# Altium integrated library Lattice EC FPGA.IntLib: 173 symbols (part 1 of 2)
Pins are listed as number, name and electrical type; pins without a type are passive.

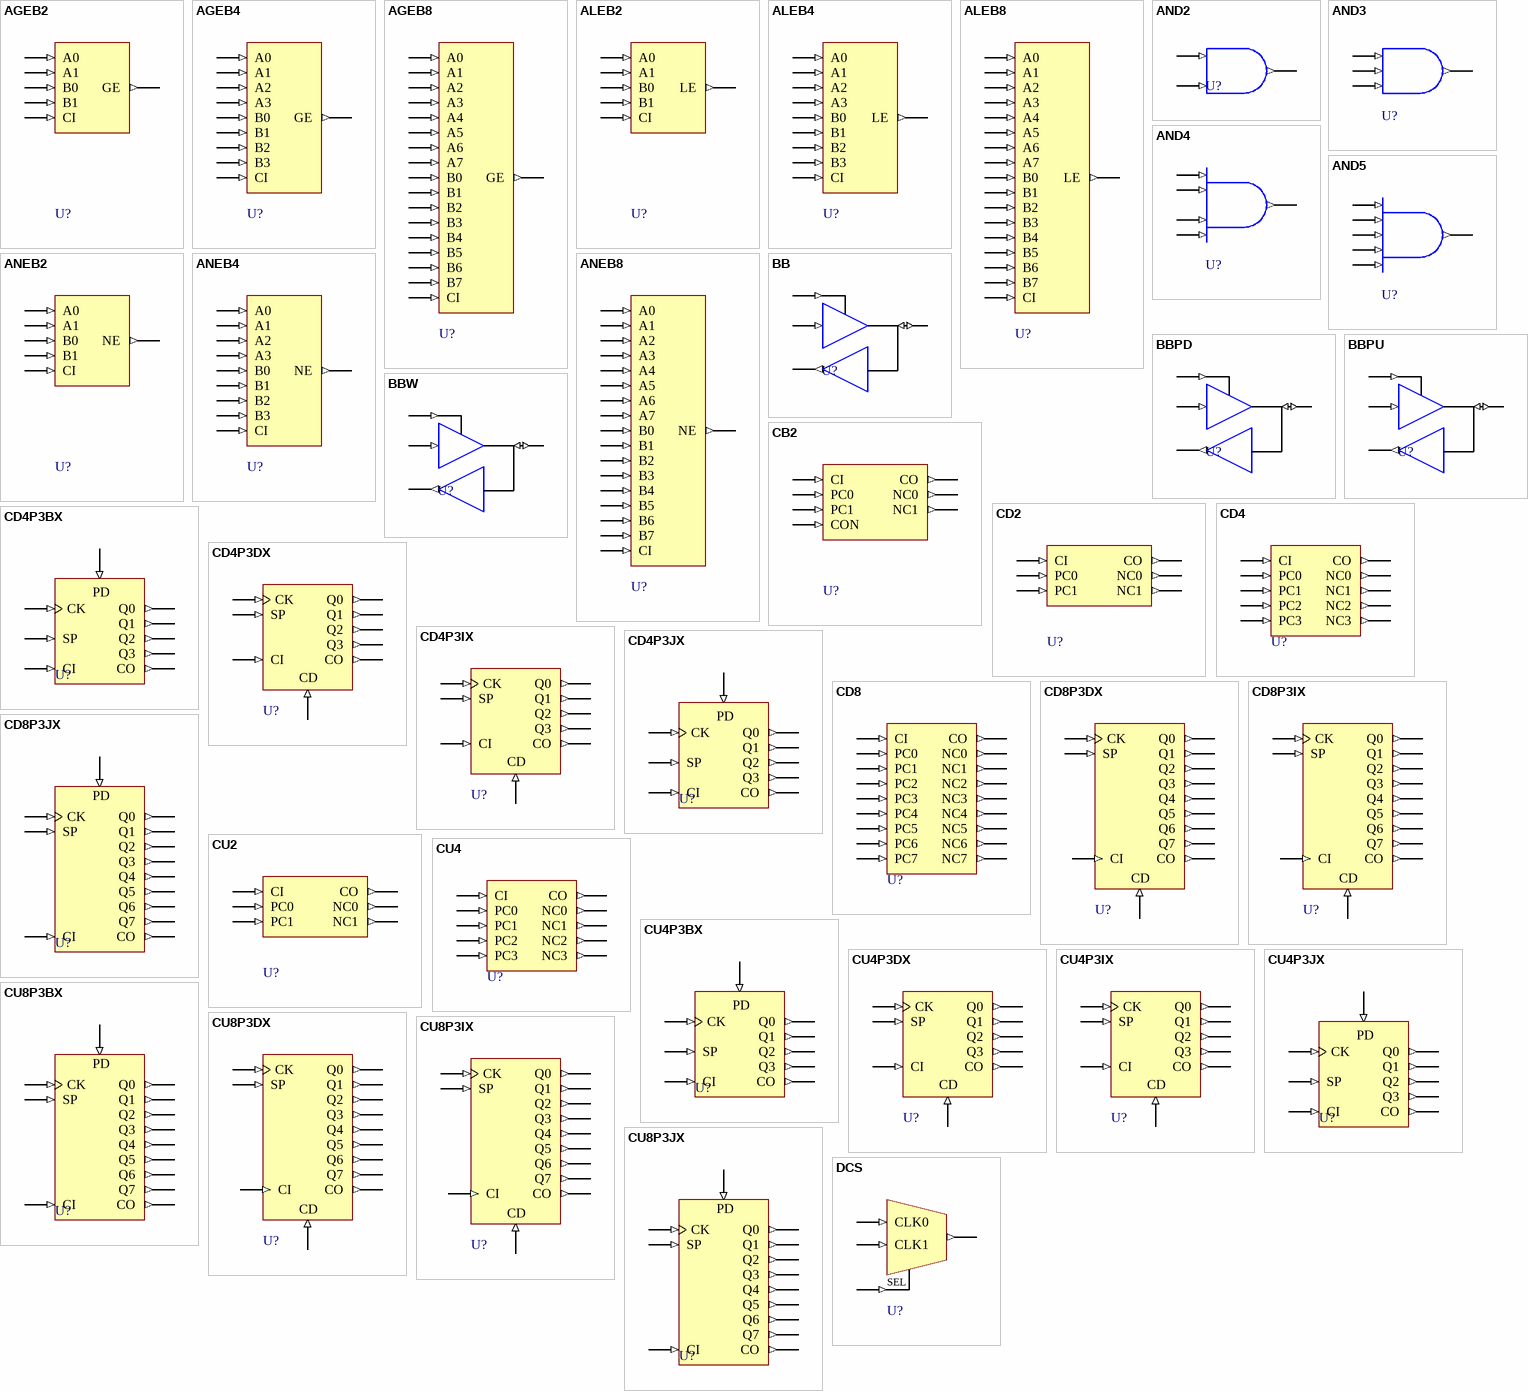
[diagram p0: symbols AGEB2 to DCS]

## AGEB2
designator U?
"A" Greater Than Or Equal To "B" (2 Bit); FPGAVendor: Lattice; Published: 15-Jun-2005; Publisher: Altium Limited; HelpURL: http://www.latticesemi.com/lit/docs/manuals/library.pdf
pins: A0 (in), A1 (in), B0 (in), B1 (in), CI (in), GE (out)

## AGEB4
designator U?
"A" Greater Than Or Equal To "B" (4 Bit); FPGAVendor: Lattice; Published: 15-Jun-2005; Publisher: Altium Limited; HelpURL: http://www.latticesemi.com/lit/docs/manuals/library.pdf
pins: A0 (in), A1 (in), A2 (in), A3 (in), B0 (in), B1 (in), B2 (in), B3 (in), CI (in), GE (out)

## AGEB8
designator U?
"A" Greater Than Or Equal To "B" (8 Bit); FPGAVendor: Lattice; Published: 15-Jun-2005; Publisher: Altium Limited; HelpURL: http://www.latticesemi.com/lit/docs/manuals/library.pdf
pins: A0 (in), A1 (in), A2 (in), A3 (in), A4 (in), A5 (in), A6 (in), A7 (in), B0 (in), B1 (in), B2 (in), B3 (in), B4 (in), B5 (in), B6 (in), B7 (in), CI (in), GE (out)

## ALEB2
designator U?
"A” Less Than Or Equal To "B” (2 bit); FPGAVendor: Lattice; Published: 15-Jun-2005; Publisher: Altium Limited; HelpURL: http://www.latticesemi.com/lit/docs/manuals/library.pdf
pins: A0 (in), A1 (in), B0 (in), B1 (in), CI (in), LE (out)

## ALEB4
designator U?
"A” Less Than Or Equal To "B” (4 bit); FPGAVendor: Lattice; Published: 15-Jun-2005; Publisher: Altium Limited; HelpURL: http://www.latticesemi.com/lit/docs/manuals/library.pdf
pins: A0 (in), A1 (in), A2 (in), A3 (in), B0 (in), B1 (in), B2 (in), B3 (in), CI (in), LE (out)

## ALEB8
designator U?
"A” Less Than Or Equal To "B” (8 bit); FPGAVendor: Lattice; Published: 15-Jun-2005; Publisher: Altium Limited; HelpURL: http://www.latticesemi.com/lit/docs/manuals/library.pdf
pins: A0 (in), A1 (in), A2 (in), A3 (in), A4 (in), A5 (in), A6 (in), A7 (in), B0 (in), B1 (in), B2 (in), B3 (in), B4 (in), B5 (in), B6 (in), B7 (in), CI (in), LE (out)

## AND2
designator U?
2 Input AND Gate; FPGAVendor: Lattice; Published: 15-Jun-2005; Publisher: Altium Limited; HelpURL: http://www.latticesemi.com/lit/docs/manuals/library.pdf
pins: A (in), B (in), Z (out)

## AND3
designator U?
3 Input AND Gate; FPGAVendor: Lattice; Published: 15-Jun-2005; Publisher: Altium Limited; HelpURL: http://www.latticesemi.com/lit/docs/manuals/library.pdf
pins: A (in), B (in), C (in), Z (out)

## AND4
designator U?
4 Input AND Gate; FPGAVendor: Lattice; Published: 15-Jun-2005; Publisher: Altium Limited; HelpURL: http://www.latticesemi.com/lit/docs/manuals/library.pdf
pins: A (in), B (in), C (in), D (in), Z (out)

## AND5
designator U?
5 Input AND Gate; FPGAVendor: Lattice; Published: 15-Jun-2005; Publisher: Altium Limited; HelpURL: http://www.latticesemi.com/lit/docs/manuals/library.pdf
pins: A (in), B (in), C (in), D (in), E (in), Z (out)

## ANEB2
designator U?
"A” Not Equal To "B” (2 bit); FPGAVendor: Lattice; Published: 15-Jun-2005; Publisher: Altium Limited; HelpURL: http://www.latticesemi.com/lit/docs/manuals/library.pdf
pins: A0 (in), A1 (in), B0 (in), B1 (in), CI (in), NE (out)

## ANEB4
designator U?
"A” Not Equal To "B” (4 bit); FPGAVendor: Lattice; Published: 15-Jun-2005; Publisher: Altium Limited; HelpURL: http://www.latticesemi.com/lit/docs/manuals/library.pdf
pins: A0 (in), A1 (in), A2 (in), A3 (in), B0 (in), B1 (in), B2 (in), B3 (in), CI (in), NE (out)

## ANEB8
designator U?
"A” Not Equal To "B” (8 bit); FPGAVendor: Lattice; Published: 15-Jun-2005; Publisher: Altium Limited; HelpURL: http://www.latticesemi.com/lit/docs/manuals/library.pdf
pins: A0 (in), A1 (in), A2 (in), A3 (in), A4 (in), A5 (in), A6 (in), A7 (in), B0 (in), B1 (in), B2 (in), B3 (in), B4 (in), B5 (in), B6 (in), B7 (in), CI (in), NE (out)

## BB
designator U?
CMOS Input 6mA Sink 3mA Source Sinklim Output Buffer with Tristate – BiDirectional; FPGAVendor: Lattice; Published: 15-Jun-2005; Publisher: Altium Limited; HelpURL: http://www.latticesemi.com/lit/docs/manuals/library.pdf
pins: B (io), I (in), O (out), T (in)

## BBPD
designator U?
CMOS Input 6mA Sink 3mA Source Sinklim Output Buffer with Tristate and Pull-down – BiDirectional; FPGAVendor: Lattice; Published: 15-Jun-2005; Publisher: Altium Limited; HelpURL: http://www.latticesemi.com/lit/docs/manuals/library.pdf
pins: B (io), I (in), O (out), T (in)

## BBPU
designator U?
CMOS Input 6mA Sink 3mA Source Sinklim Output Buffer with Tristate and Pull-up – BiDirectional; FPGAVendor: Lattice; Published: 15-Jun-2005; Publisher: Altium Limited; HelpURL: http://www.latticesemi.com/lit/docs/manuals/library.pdf
pins: B (io), I (in), O (out), T (in)

## BBW
designator U?
CMOS Input 6mA Sink 3mA Source Sinklim Output Buffer with Tristate – BiDirectional in keepermode; FPGAVendor: Lattice; Published: 15-Jun-2005; Publisher: Altium Limited; HelpURL: http://www.latticesemi.com/lit/docs/manuals/library.pdf
pins: B (io), I (in), O (out), T (in)

## CB2
designator U?
LatticeXP based counter; Published: 15-Jun-2005; Publisher: Altium Limited; FPGAVendor: Lattice; HelpURL: http://www.latticesemi.com/lit/docs/manuals/library.pdf
pins: CI (in), CO (out), CON (in), NC0 (out), NC1 (out), PC0 (in), PC1 (in)

## CD2
designator U?
Combinational Logic for 2 Bit Down Counter using Look-Up Table; FPGAVendor: Lattice; Published: 15-Jun-2005; Publisher: Altium Limited; HelpURL: http://www.latticesemi.com/lit/docs/manuals/library.pdf
pins: CI (in), CO (out), NC0 (out), NC1 (out), PC0 (in), PC1 (in)

## CD4
designator U?
Combinational Logic for 4 Bit Down Counter using Look-Up Table; FPGAVendor: Lattice; Published: 15-Jun-2005; Publisher: Altium Limited; HelpURL: http://www.latticesemi.com/lit/docs/manuals/library.pdf
pins: CI (in), CO (out), NC0 (out), NC1 (out), NC2 (out), NC3 (out), PC0 (in), PC1 (in), PC2 (in), PC3 (in)

## CD4P3BX
designator U?
4 Bit Positive Edge Triggered Fast Down Counter with Positive Clock Enable and Positive Asynchronous Preset; FPGAVendor: Lattice; Published: 15-Jun-2005; Publisher: Altium Limited; HelpURL: http://www.latticesemi.com/lit/docs/manuals/library.pdf
pins: CI (in), CK (in), CO (out), PD (in), Q0 (out), Q1 (out), Q2 (out), Q3 (out), SP (in)

## CD4P3DX
designator U?
4 Bit Positive Edge Triggered Fast Down Counter with Positive Clock Enable and Positive Asynchronous Clear; FPGAVendor: Lattice; Published: 15-Jun-2005; Publisher: Altium Limited; HelpURL: http://www.latticesemi.com/lit/docs/manuals/library.pdf
pins: CD (in), CI (in), CK (in), CO (out), Q0 (out), Q1 (out), Q2 (out), Q3 (out), SP (in)

## CD4P3IX
designator U?
4 Bit Positive Edge Triggered Fast Down Counter with Positive Clock Enable and Positive Synchronous Clear; FPGAVendor: Lattice; Published: 15-Jun-2005; Publisher: Altium Limited; HelpURL: http://www.latticesemi.com/lit/docs/manuals/library.pdf
pins: CD (in), CI (in), CK (in), CO (out), Q0 (out), Q1 (out), Q2 (out), Q3 (out), SP (in)

## CD4P3JX
designator U?
4 Bit Positive Edge Triggered Fast Down Counter with Positive Clock Enable and Positive Synchronous Preset; FPGAVendor: Lattice; Published: 15-Jun-2005; Publisher: Altium Limited; HelpURL: http://www.latticesemi.com/lit/docs/manuals/library.pdf
pins: CI (in), CK (in), CO (out), PD (in), Q0 (out), Q1 (out), Q2 (out), Q3 (out), SP (in)

## CD8
designator U?
8 Bit Positive Edge Triggered Fast Down Counter with Positive Clock Enable and Positive Asynchronous Preset; FPGAVendor: Lattice; Published: 15-Jun-2005; Publisher: Altium Limited; HelpURL: http://www.latticesemi.com/lit/docs/manuals/library.pdf
pins: CI (in), CO (out), NC0 (out), NC1 (out), NC2 (out), NC3 (out), NC4 (out), NC5 (out), NC6 (out), NC7 (out), PC0 (in), PC1 (in), PC2 (in), PC3 (in), PC4 (in), PC5 (in), PC6 (in), PC7 (in)

## CD8P3DX
designator U?
8 Bit Positive Edge Triggered Fast Down Counter with Positive Clock Enable and Positive Asynchronous Clear; FPGAVendor: Lattice; Published: 15-Jun-2005; Publisher: Altium Limited; HelpURL: http://www.latticesemi.com/lit/docs/manuals/library.pdf
pins: CD (in), CI (in), CK (in), CO (out), Q0 (out), Q1 (out), Q2 (out), Q3 (out), Q4 (out), Q5 (out), Q6 (out), Q7 (out), SP (in)

## CD8P3IX
designator U?
8 Bit Positive Edge Triggered Fast Down Counter with Positive Clock Enable and Positive Synchronous Clear; FPGAVendor: Lattice; Published: 15-Jun-2005; Publisher: Altium Limited; HelpURL: http://www.latticesemi.com/lit/docs/manuals/library.pdf
pins: CD (in), CI (in), CK (in), CO (out), Q0 (out), Q1 (out), Q2 (out), Q3 (out), Q4 (out), Q5 (out), Q6 (out), Q7 (out), SP (in)

## CD8P3JX
designator U?
8 Bit Positive Edge Triggered Fast Down Counter with Positive Clock Enable and Positive Synchronous Preset; FPGAVendor: Lattice; Published: 15-Jun-2005; Publisher: Altium Limited; HelpURL: http://www.latticesemi.com/lit/docs/manuals/library.pdf
pins: CI (in), CK (in), CO (out), PD (in), Q0 (out), Q1 (out), Q2 (out), Q3 (out), Q4 (out), Q5 (out), Q6 (out), Q7 (out), SP (in)

## CU2
designator U?
Combinational Logic for 2 Bit Up Counter using Look-Up Table; FPGAVendor: Lattice; Published: 15-Jun-2005; Publisher: Altium Limited; HelpURL: http://www.latticesemi.com/lit/docs/manuals/library.pdf
pins: CI (in), CO (out), NC0 (out), NC1 (out), PC0 (in), PC1 (in)

## CU4
designator U?
Combinational Logic for 4 Bit Up Counter using Look-Up Table; FPGAVendor: Lattice; Published: 15-Jun-2005; Publisher: Altium Limited; HelpURL: http://www.latticesemi.com/lit/docs/manuals/library.pdf
pins: CI (in), CO (out), NC0 (out), NC1 (out), NC2 (out), NC3 (out), PC0 (in), PC1 (in), PC2 (in), PC3 (in)

## CU4P3BX
designator U?
4 Bit Positive Edge Triggered Fast Up Counter with Positive Clock Enable and Positive Asynchronous Preset; FPGAVendor: Lattice; Published: 15-Jun-2005; Publisher: Altium Limited; HelpURL: http://www.latticesemi.com/lit/docs/manuals/library.pdf
pins: CI (in), CK (in), CO (out), PD (in), Q0 (out), Q1 (out), Q2 (out), Q3 (out), SP (in)

## CU4P3DX
designator U?
4 Bit Positive Edge Triggered Fast Up Counter with Positive Clock Enable and Positive Asynchronous Clear; FPGAVendor: Lattice; Published: 15-Jun-2005; Publisher: Altium Limited; HelpURL: http://www.latticesemi.com/lit/docs/manuals/library.pdf
pins: CD (in), CI (in), CK (in), CO (out), Q0 (out), Q1 (out), Q2 (out), Q3 (out), SP (in)

## CU4P3IX
designator U?
4 Bit Positive Edge Triggered Fast Up Counter with Positive Clock Enable and Positive Synchronous Clear; FPGAVendor: Lattice; Published: 15-Jun-2005; Publisher: Altium Limited; HelpURL: http://www.latticesemi.com/lit/docs/manuals/library.pdf
pins: CD (in), CI (in), CK (in), CO (out), Q0 (out), Q1 (out), Q2 (out), Q3 (out), SP (in)

## CU4P3JX
designator U?
4 Bit Positive Edge Triggered Fast Up Counter with Positive Clock Enable and Positive Synchronous Preset; FPGAVendor: Lattice; Published: 15-Jun-2005; Publisher: Altium Limited; HelpURL: http://www.latticesemi.com/lit/docs/manuals/library.pdf
pins: CI (in), CK (in), CO (out), PD (in), Q0 (out), Q1 (out), Q2 (out), Q3 (out), SP (in)

## CU8P3BX
designator U?
8 Bit Positive Edge Triggered Fast Up Counter with Positive Clock Enable and Positive Asynchronous Preset; FPGAVendor: Lattice; Published: 15-Jun-2005; Publisher: Altium Limited; HelpURL: http://www.latticesemi.com/lit/docs/manuals/library.pdf
pins: CI (in), CK (in), CO (out), PD (in), Q0 (out), Q1 (out), Q2 (out), Q3 (out), Q4 (out), Q5 (out), Q6 (out), Q7 (out), SP (in)

## CU8P3DX
designator U?
8 Bit Positive Edge Triggered Fast Up Counter with Positive Clock Enable and Positive Asynchronous Clear; FPGAVendor: Lattice; Published: 15-Jun-2005; Publisher: Altium Limited; HelpURL: http://www.latticesemi.com/lit/docs/manuals/library.pdf
pins: CD (in), CI (in), CK (in), CO (out), Q0 (out), Q1 (out), Q2 (out), Q3 (out), Q4 (out), Q5 (out), Q6 (out), Q7 (out), SP (in)

## CU8P3IX
designator U?
8 Bit Positive Edge Triggered Fast Up Counter with Positive Clock Enable and Positive Synchronous Clear; FPGAVendor: Lattice; Published: 15-Jun-2005; Publisher: Altium Limited; HelpURL: http://www.latticesemi.com/lit/docs/manuals/library.pdf
pins: CD (in), CI (in), CK (in), CO (out), Q0 (out), Q1 (out), Q2 (out), Q3 (out), Q4 (out), Q5 (out), Q6 (out), Q7 (out), SP (in)

## CU8P3JX
designator U?
8 Bit Positive Edge Triggered Fast Up Counter with Positive Clock Enable and Positive Synchronous Preset; FPGAVendor: Lattice; Published: 15-Jun-2005; Publisher: Altium Limited; HelpURL: http://www.latticesemi.com/lit/docs/manuals/library.pdf
pins: CI (in), CK (in), CO (out), PD (in), Q0 (out), Q1 (out), Q2 (out), Q3 (out), Q4 (out), Q5 (out), Q6 (out), Q7 (out), SP (in)

## DCS
designator U?
Dynamic Clock Selection Multiplexer; FPGAVendor: Lattice; Published: 15-Jun-2005; Publisher: Altium Limited; HelpURL: http://www.latticesemi.com/lit/docs/manuals/library.pdf
pins: CLK0 (in), CLK1 (in), DCSOUT (out), SEL (in)

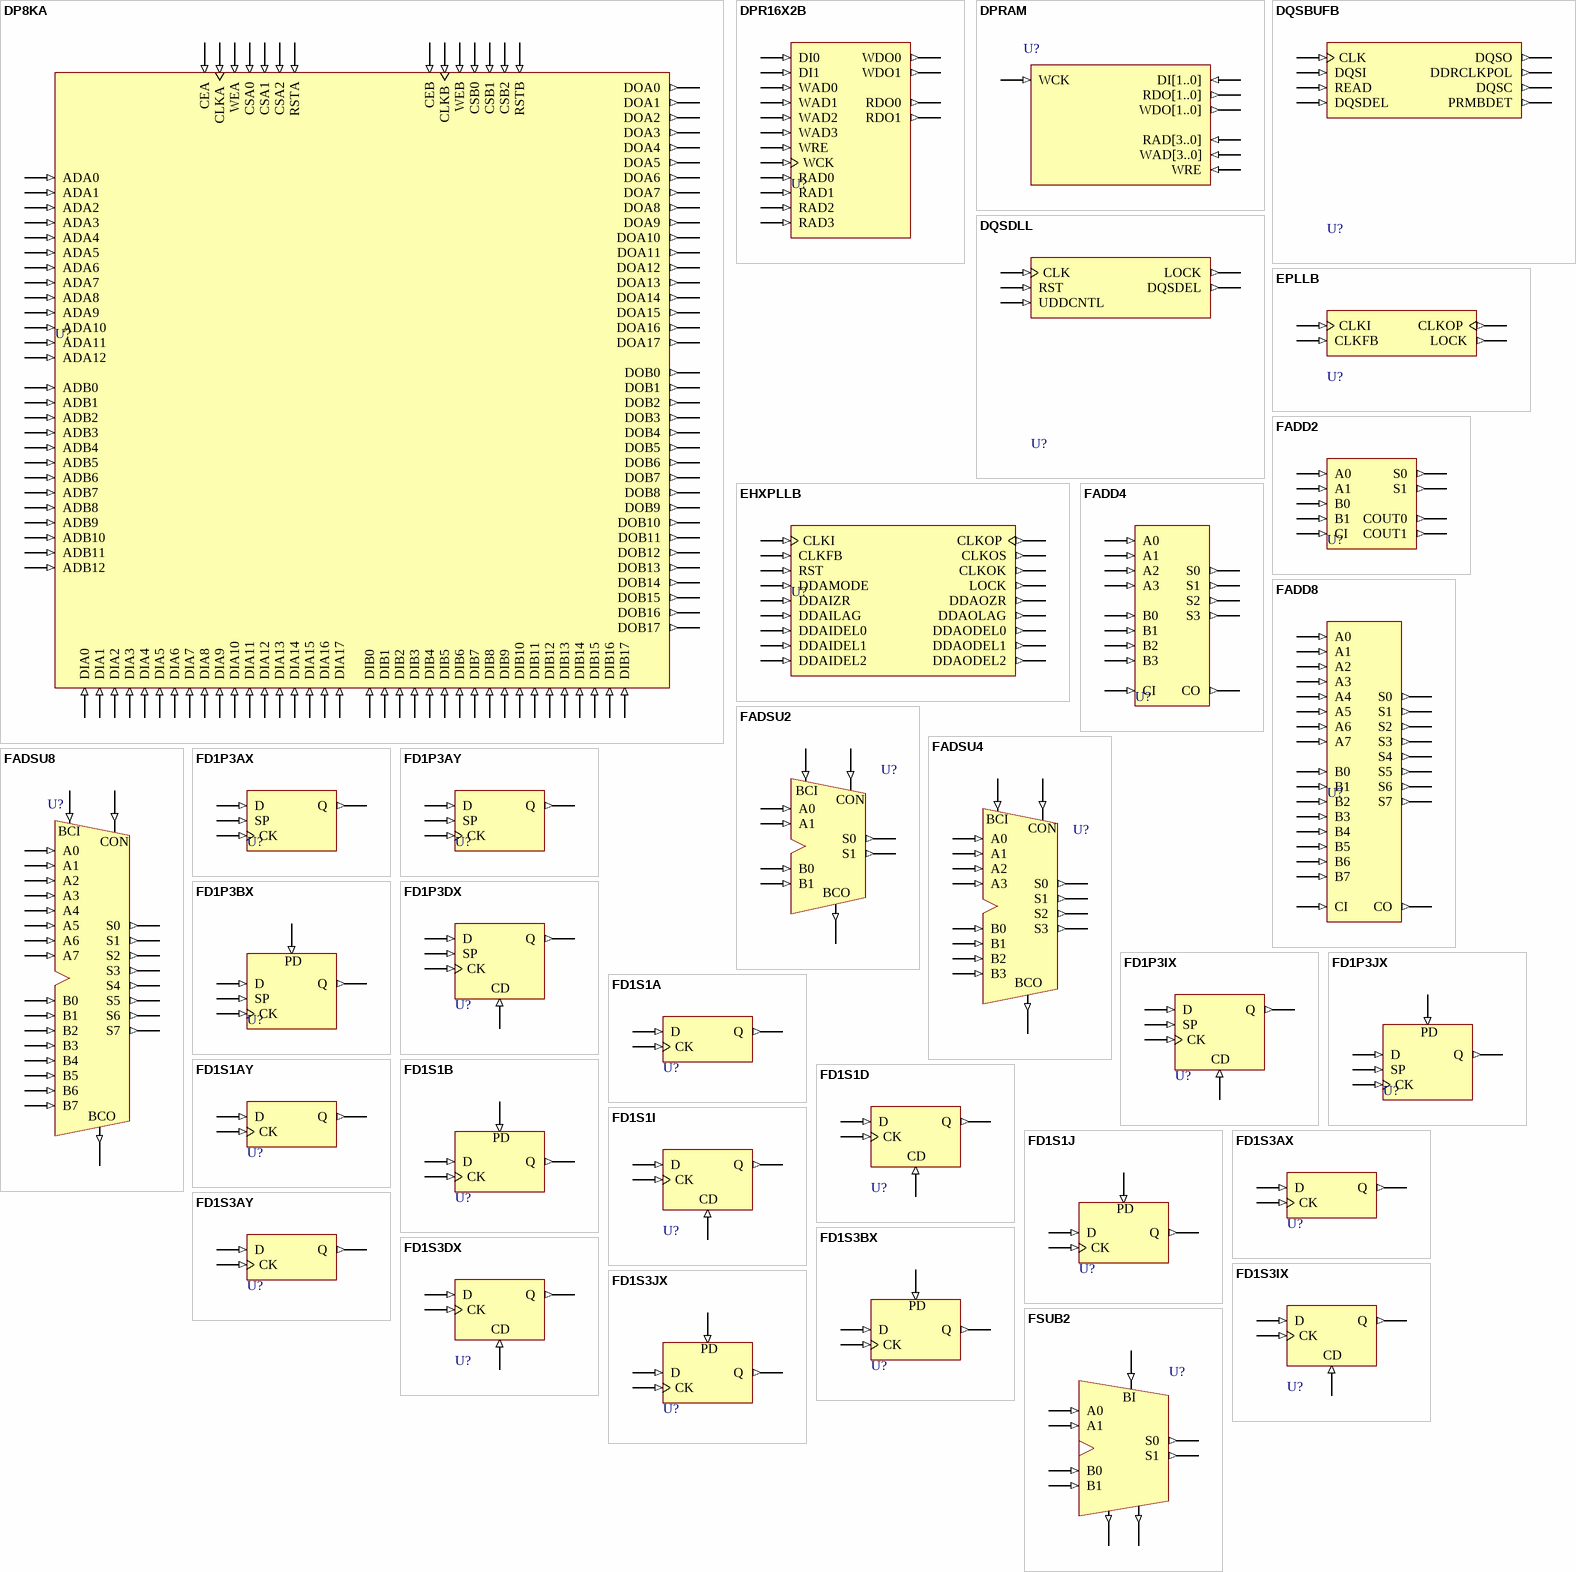
[diagram p1: symbols DP8KA to FSUB2]

## DP8KA
designator U?
8K Dual Port Block RAM; FPGAVendor: Lattice; Published: 15-Jun-2005; Publisher: Altium Limited; HelpURL: http://www.latticesemi.com/lit/docs/manuals/library.pdf
pins: ADA0 (in), ADA1 (in), ADA2 (in), ADA3 (in), ADA4 (in), ADA5 (in), ADA6 (in), ADA7 (in), ADA8 (in), ADA9 (in), ADA10 (in), ADA11 (in), ADA12 (in), ADB0 (in), ADB1 (in), ADB2 (in), ADB3 (in), ADB4 (in), ADB5 (in), ADB6 (in), ADB7 (in), ADB8 (in), ADB9 (in), ADB10 (in), ADB11 (in), ADB12 (in), CEA (in), CEB (in), CLKA (in), CLKB (in), CSA0 (in), CSA1 (in), CSA2 (in), CSB0 (in), CSB1 (in), CSB2 (in), DIA0 (in), DIA1 (in), DIA2 (in), DIA3 (in), DIA4 (in), DIA5 (in), DIA6 (in), DIA7 (in), DIA8 (in), DIA9 (in), DIA10 (in), DIA11 (in), DIA12 (in), DIA13 (in), DIA14 (in), DIA15 (in), DIA16 (in), DIA17 (in), DIB0 (in), DIB1 (in), DIB2 (in), DIB3 (in), DIB4 (in), DIB5 (in), DIB6 (in), DIB7 (in), DIB8 (in), DIB9 (in), DIB10 (in), DIB11 (in), DIB12 (in), DIB13 (in), DIB14 (in), DIB15 (in), DIB16 (in), DIB17 (in), DOA0 (out), DOA1 (out), DOA2 (out), DOA3 (out), DOA4 (out), DOA5 (out), DOA6 (out), DOA7 (out), DOA8 (out), DOA9 (out), DOA10 (out), DOA11 (out), DOA12 (out), DOA13 (out), DOA14 (out), DOA15 (out), DOA16 (out), DOA17 (out), DOB0 (out), DOB1 (out), DOB2 (out), DOB3 (out), DOB4 (out), DOB5 (out), DOB6 (out), DOB7 (out), DOB8 (out), DOB9 (out), DOB10 (out), DOB11 (out), DOB12 (out), DOB13 (out), DOB14 (out), DOB15 (out), DOB16 (out), DOB17 (out), RSTA (in), RSTB (in), WEA (in), WEB (in)

## DPR16X2B
designator U?
16 Word by 2 Dual Port RAM (within PFU); FPGAVendor: Lattice; Published: 15-Jun-2005; Publisher: Altium Limited; HelpURL: http://www.latticesemi.com/lit/docs/manuals/library.pdf
pins: DI0 (in), DI1 (in), RAD0 (in), RAD1 (in), RAD2 (in), RAD3 (in), RDO0 (out), RDO1 (out), WAD0 (in), WAD1 (in), WAD2 (in), WAD3 (in), WCK (in), WDO0 (out), WDO1 (out), WRE (in)

## DPRAM
designator U?
Distributed Dual Port RAM; FPGAVendor: Lattice; Published: 10-Aug-2005; Publisher: Altium Limited; HelpURL: http://www.latticesemi.com/lit/docs/handbooks/ecp_ec_handbook.pdf
pins: DI[1..0] (in), RAD[3..0] (in), RDO[1..0] (out), WAD[3..0] (in), WCK (in), WDO[1..0] (out), WRE (in)

## DQSBUFB
designator U?
DDR DQS Buffer used as DDR memory DQS generator; FPGAVendor: Lattice; Published: 15-Jun-2005; Publisher: Altium Limited; HelpURL: http://www.latticesemi.com/lit/docs/manuals/library.pdf
pins: CLK (in), DDRCLKPOL (out), DQSC (out), DQSDEL (in), DQSI (in), DQSO (out), PRMBDET (out), READ (in)

## DQSDLL
designator U?
DLL used as DDR memory DQS DLL; FPGAVendor: Lattice; Published: 15-Jun-2005; Publisher: Altium Limited; HelpURL: http://www.latticesemi.com/lit/docs/manuals/library.pdf
pins: CLK (in), DQSDEL (out), LOCK (out), RST (in), UDDCNTL (in)

## EHXPLLB
designator U?
Enhanced High Performance with Dynamic Input Delay Control PLL; FPGAVendor: Lattice; Published: 15-Jun-2005; Publisher: Altium Limited; HelpURL: http://www.latticesemi.com/lit/docs/manuals/library.pdf
pins: CLKFB (in), CLKI (in), CLKOK (out), CLKOP (out), CLKOS (out), DDAIDEL0 (in), DDAIDEL1 (in), DDAIDEL2 (in), DDAILAG (in), DDAIZR (in), DDAMODE (in), DDAODEL0 (out), DDAODEL1 (out), DDAODEL2 (out), DDAOLAG (out), DDAOZR (out), LOCK (out), RST (in)

## EPLLB
designator U?
Enhanced PLL; FPGAVendor: Lattice; Published: 15-Jun-2005; Publisher: Altium Limited; HelpURL: http://www.latticesemi.com/lit/docs/manuals/library.pdf
pins: CLKFB (in), CLKI (in), CLKOP (out), LOCK (out)

## FADD2
designator U?
2 Bit Fast Adder; FPGAVendor: Lattice; Published: 15-Jun-2005; Publisher: Altium Limited; HelpURL: http://www.latticesemi.com/lit/docs/manuals/library.pdf
pins: A0 (in), A1 (in), B0 (in), B1 (in), CI (in), COUT0 (out), COUT1 (out), S0 (out), S1 (out)

## FADD4
designator U?
4 Bit Fast Adder; FPGAVendor: Lattice; Published: 15-Jun-2005; Publisher: Altium Limited; HelpURL: http://www.latticesemi.com/lit/docs/manuals/library.pdf
pins: A0 (in), A1 (in), A2 (in), A3 (in), B0 (in), B1 (in), B2 (in), B3 (in), CI (in), CO (out), S0 (out), S1 (out), S2 (out), S3 (out)

## FADD8
designator U?
8 Bit Fast Adder; FPGAVendor: Lattice; Published: 15-Jun-2005; Publisher: Altium Limited; HelpURL: http://www.latticesemi.com/lit/docs/manuals/library.pdf
pins: A0 (in), A1 (in), A2 (in), A3 (in), A4 (in), A5 (in), A6 (in), A7 (in), B0 (in), B1 (in), B2 (in), B3 (in), B4 (in), B5 (in), B6 (in), B7 (in), CI (in), CO (out), S0 (out), S1 (out), S2 (out), S3 (out), S4 (out), S5 (out), S6 (out), S7 (out)

## FADSU2
designator U?
2 Bit Fast Adder/Subtracter (two’s complement); FPGAVendor: Lattice; Published: 15-Jun-2005; Publisher: Altium Limited; HelpURL: http://www.latticesemi.com/lit/docs/manuals/library.pdf
pins: A0 (in), A1 (in), B0 (in), B1 (in), BCI (in), BCO (out), CON (in), S0 (out), S1 (out)

## FADSU4
designator U?
4 Bit Fast Adder/Subtracter (two’s complement); FPGAVendor: Lattice; Published: 15-Jun-2005; Publisher: Altium Limited; HelpURL: http://www.latticesemi.com/lit/docs/manuals/library.pdf
pins: A0 (in), A1 (in), A2 (in), A3 (in), B0 (in), B1 (in), B2 (in), B3 (in), BCI (in), BCO (out), CON (in), S0 (out), S1 (out), S2 (out), S3 (out)

## FADSU8
designator U?
8 Bit Fast Adder/Subtracter (two’s complement); FPGAVendor: Lattice; Published: 15-Jun-2005; Publisher: Altium Limited; HelpURL: http://www.latticesemi.com/lit/docs/manuals/library.pdf
pins: A0 (in), A1 (in), A2 (in), A3 (in), A4 (in), A5 (in), A6 (in), A7 (in), B0 (in), B1 (in), B2 (in), B3 (in), B4 (in), B5 (in), B6 (in), B7 (in), BCI (in), BCO (out), CON (in), S0 (out), S1 (out), S2 (out), S3 (out), S4 (out), S5 (out), S6 (out), S7 (out)

## FD1P3AX
designator U?
Positive Edge Triggered D Flip-Flop with Positive Level Enable, GSR used for Clear; FPGAVendor: Lattice; Published: 15-Jun-2005; Publisher: Altium Limited; HelpURL: http://www.latticesemi.com/lit/docs/manuals/library.pdf
pins: CK (in), D (in), Q (out), SP (in)

## FD1P3AY
designator U?
Positive Edge Triggered D Flip-Flop with Positive Level Enable, GSR used for Preset; FPGAVendor: Lattice; Published: 15-Jun-2005; Publisher: Altium Limited; HelpURL: http://www.latticesemi.com/lit/docs/manuals/library.pdf
pins: CK (in), D (in), Q (out), SP (in)

## FD1P3BX
designator U?
Positive Edge Triggered D Flip-Flop with Positive Level Enable and Positive Level Asynchronous Preset; FPGAVendor: Lattice; Published: 15-Jun-2005; Publisher: Altium Limited; HelpURL: http://www.latticesemi.com/lit/docs/manuals/library.pdf
pins: CK (in), D (in), PD (in), Q (out), SP (in)

## FD1P3DX
designator U?
Positive Edge Triggered D Flip-Flop with Positive Level Enable and Positive Level Asynchronous Clear; FPGAVendor: Lattice; Published: 15-Jun-2005; Publisher: Altium Limited; HelpURL: http://www.latticesemi.com/lit/docs/manuals/library.pdf
pins: CD (in), CK (in), D (in), Q (out), SP (in)

## FD1P3IX
designator U?
Positive Edge Triggered D Flip-Flop with Positive Level Synchronous Clear and Positive Level Enable (Clear overrides Enable); FPGAVendor: Lattice; Published: 15-Jun-2005; Publisher: Altium Limited; HelpURL: http://www.latticesemi.com/lit/docs/manuals/library.pdf
pins: CD (in), CK (in), D (in), Q (out), SP (in)

## FD1P3JX
designator U?
Positive Edge Triggered D Flip-Flop with Positive Level Synchronous Preset and Positive Level Enable (Preset overrides Enable); FPGAVendor: Lattice; Published: 15-Jun-2005; Publisher: Altium Limited; HelpURL: http://www.latticesemi.com/lit/docs/manuals/library.pdf
pins: CK (in), D (in), PD (in), Q (out), SP (in)

## FD1S1A
designator U?
Positive Level Data Latch with GSR Used for Clear; FPGAVendor: Lattice; Published: 15-Jun-2005; Publisher: Altium Limited; HelpURL: http://www.latticesemi.com/lit/docs/manuals/library.pdf
pins: CK (in), D (in), Q (out)

## FD1S1AY
designator U?
Positive Level Data Latch with GSR Used for Preset; FPGAVendor: Lattice; Published: 15-Jun-2005; Publisher: Altium Limited; HelpURL: http://www.latticesemi.com/lit/docs/manuals/library.pdf
pins: CK (in), D (in), Q (out)

## FD1S1B
designator U?
Positive Level Data Latch with Positive Level Asynchronous Preset; FPGAVendor: Lattice; Published: 15-Jun-2005; Publisher: Altium Limited; HelpURL: http://www.latticesemi.com/lit/docs/manuals/library.pdf
pins: CK (in), D (in), PD (in), Q (out)

## FD1S1D
designator U?
Positive Level Data Latch with Positive Level Asynchronous Clear; FPGAVendor: Lattice; Published: 15-Jun-2005; Publisher: Altium Limited; HelpURL: http://www.latticesemi.com/lit/docs/manuals/library.pdf
pins: CD (in), CK (in), D (in), Q (out)

## FD1S1I
designator U?
Positive Level Data Latch with Positive Level Synchronous Clear; FPGAVendor: Lattice; Published: 15-Jun-2005; Publisher: Altium Limited; HelpURL: http://www.latticesemi.com/lit/docs/manuals/library.pdf
pins: CD (in), CK (in), D (in), Q (out)

## FD1S1J
designator U?
Positive Level Data Latch with Positive Level Synchronous Preset; FPGAVendor: Lattice; Published: 15-Jun-2005; Publisher: Altium Limited; HelpURL: http://www.latticesemi.com/lit/docs/manuals/library.pdf
pins: CK (in), D (in), PD (in), Q (out)

## FD1S3AX
designator U?
Positive Edge Triggered D Flip-Flop, GSR Used for Clear; FPGAVendor: Lattice; Published: 15-Jun-2005; Publisher: Altium Limited; HelpURL: http://www.latticesemi.com/lit/docs/manuals/library.pdf
pins: CK (in), D (in), Q (out)

## FD1S3AY
designator U?
Positive Edge Triggered D Flip-Flop, GSR Used for Preset; FPGAVendor: Lattice; Published: 15-Jun-2005; Publisher: Altium Limited; HelpURL: http://www.latticesemi.com/lit/docs/manuals/library.pdf
pins: CK (in), D (in), Q (out)

## FD1S3BX
designator U?
Positive Edge Triggered D Flip-Flop with Positive Level Asynchronous Preset; FPGAVendor: Lattice; Published: 15-Jun-2005; Publisher: Altium Limited; HelpURL: http://www.latticesemi.com/lit/docs/manuals/library.pdf
pins: CK (in), D (in), PD (in), Q (out)

## FD1S3DX
designator U?
Positive Edge Triggered D Flip-Flop with Positive Level Asynchronous Clear; FPGAVendor: Lattice; Published: 15-Jun-2005; Publisher: Altium Limited; HelpURL: http://www.latticesemi.com/lit/docs/manuals/library.pdf
pins: CD (in), CK (in), D (in), Q (out)

## FD1S3IX
designator U?
Positive Edge Triggered D Flip-Flop with Positive Level Synchronous Clear; FPGAVendor: Lattice; Published: 15-Jun-2005; Publisher: Altium Limited; HelpURL: http://www.latticesemi.com/lit/docs/manuals/library.pdf
pins: CD (in), CK (in), D (in), Q (out)

## FD1S3JX
designator U?
Positive Edge Triggered D Flip-Flop with Positive Level Synchronous Preset; FPGAVendor: Lattice; Published: 15-Jun-2005; Publisher: Altium Limited; HelpURL: http://www.latticesemi.com/lit/docs/manuals/library.pdf
pins: CK (in), D (in), PD (in), Q (out)

## FSUB2
designator U?
2 Bit Fast Subtracter (two’s complement); FPGAVendor: Lattice; Published: 15-Jun-2005; Publisher: Altium Limited; HelpURL: http://www.latticesemi.com/lit/docs/manuals/library.pdf
pins: A0 (in), A1 (in), B0 (in), B1 (in), BI (in), BOUT0 (out), BOUT1 (out), S0 (out), S1 (out)

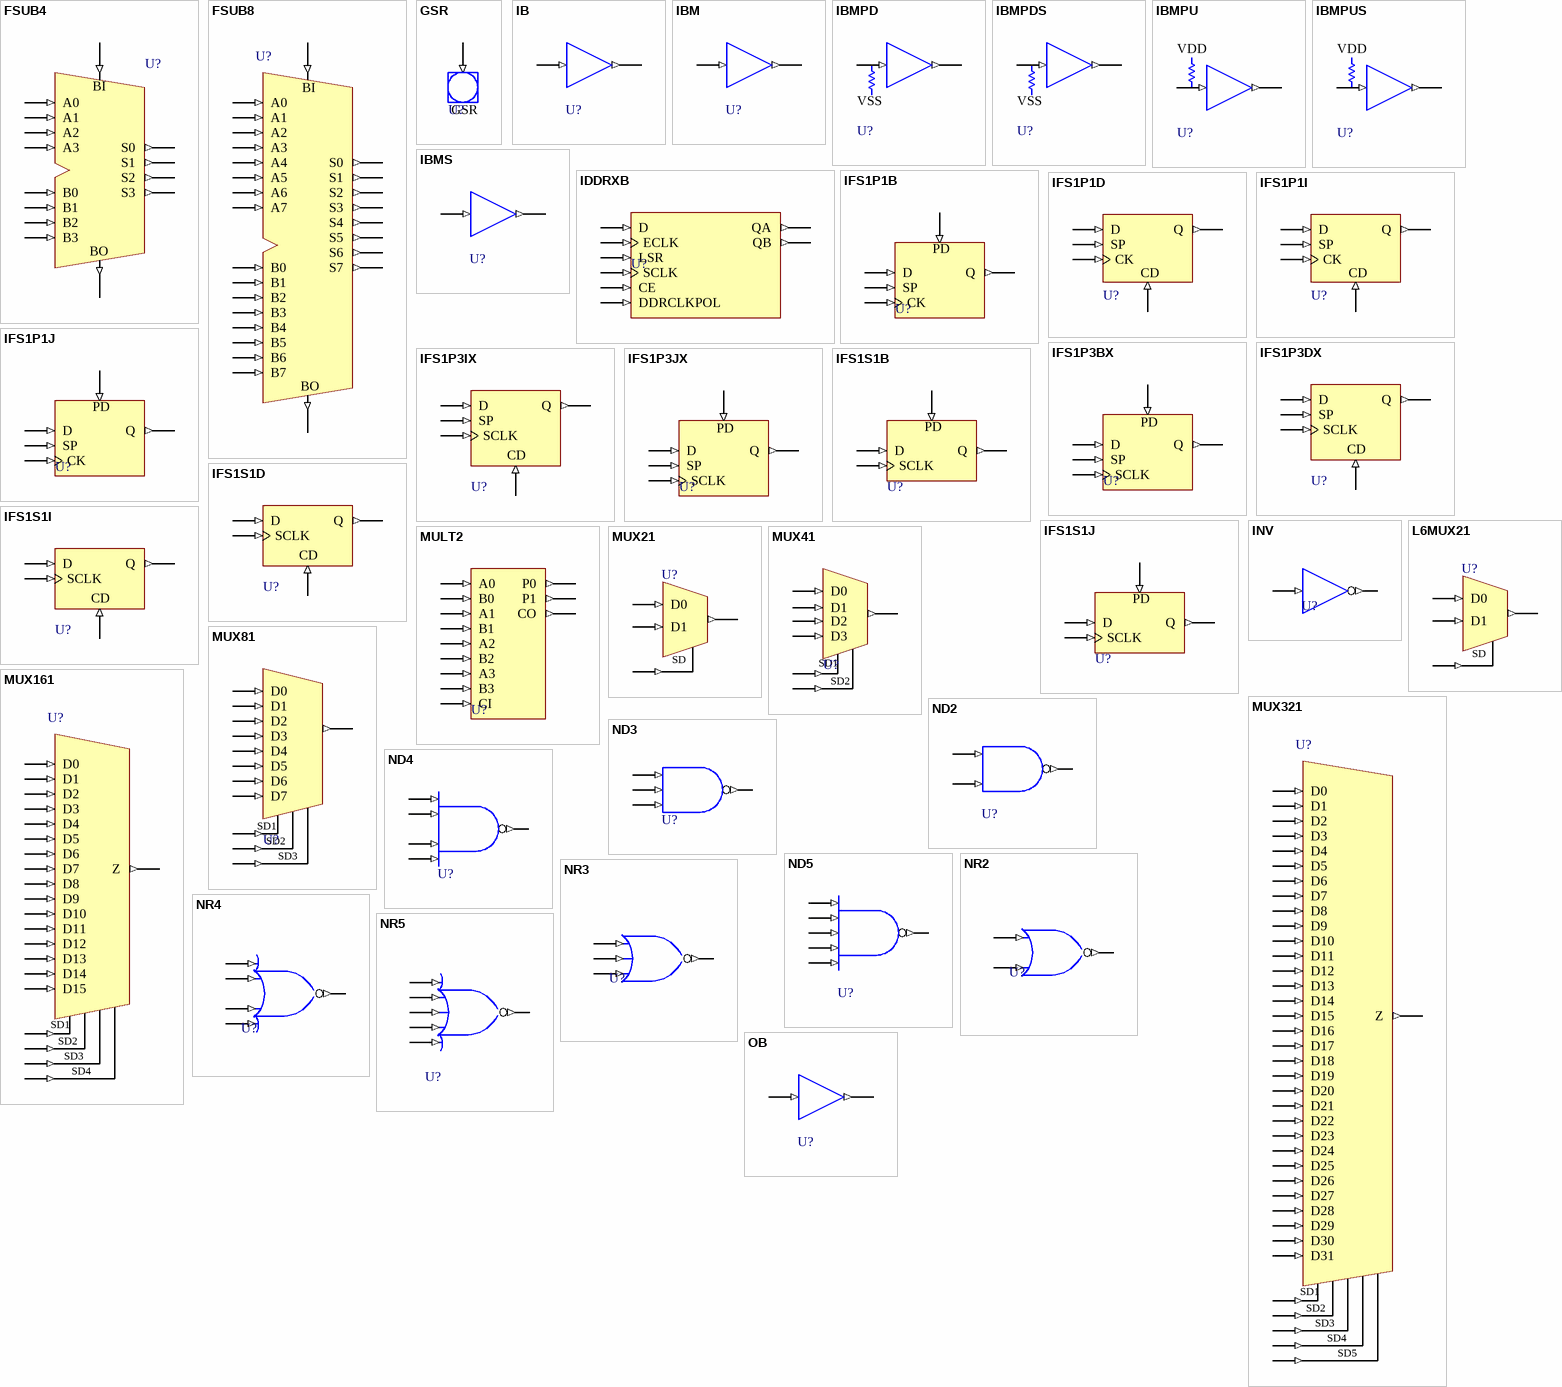
[diagram p2: symbols FSUB4 to OB]

## FSUB4
designator U?
4 Bit Fast Subtracter (two’s complement); FPGAVendor: Lattice; Published: 15-Jun-2005; Publisher: Altium Limited; HelpURL: http://www.latticesemi.com/lit/docs/manuals/library.pdf
pins: A0 (in), A1 (in), A2 (in), A3 (in), B0 (in), B1 (in), B2 (in), B3 (in), BI (in), BO (out), S0 (out), S1 (out), S2 (out), S3 (out)

## FSUB8
designator U?
8 Bit Fast Subtracter (two’s complement); FPGAVendor: Lattice; Published: 15-Jun-2005; Publisher: Altium Limited; HelpURL: http://www.latticesemi.com/lit/docs/manuals/library.pdf
pins: A0 (in), A1 (in), A2 (in), A3 (in), A4 (in), A5 (in), A6 (in), A7 (in), B0 (in), B1 (in), B2 (in), B3 (in), B4 (in), B5 (in), B6 (in), B7 (in), BI (in), BO (out), S0 (out), S1 (out), S2 (out), S3 (out), S4 (out), S5 (out), S6 (out), S7 (out)

## GSR
designator U?
Global Set/Reset; FPGAVendor: Lattice; Published: 15-Jun-2005; Publisher: Altium Limited; HelpURL: http://www.latticesemi.com/lit/docs/manuals/library.pdf
pins: GSR (in)

## IB
designator U?
CMOS Input Buffer; FPGAVendor: Lattice; Published: 15-Jun-2005; Publisher: Altium Limited; HelpURL: http://www.latticesemi.com/lit/docs/manuals/library.pdf
pins: I (in), O (out)

## IBM
designator U?
CMOS Input Buffer; FPGAVendor: Lattice; Published: 15-Jun-2005; Publisher: Altium Limited; HelpURL: http://www.latticesemi.com/lit/docs/manuals/library.pdf
pins: I (in), O (out)

## IBMPD
designator U?
CMOS Input Buffer with Pull-down; FPGAVendor: Lattice; Published: 15-Jun-2005; Publisher: Altium Limited; HelpURL: http://www.latticesemi.com/lit/docs/manuals/library.pdf
pins: I (in), O (out)
text: VSS

## IBMPDS
designator U?
CMOS Input Buffer with Pull-down and Delay; FPGAVendor: Lattice; Published: 15-Jun-2005; Publisher: Altium Limited; HelpURL: http://www.latticesemi.com/lit/docs/manuals/library.pdf
pins: I (in), O (out)
text: VSS

## IBMPU
designator U?
CMOS Input Buffer with Pull-up; FPGAVendor: Lattice; Published: 15-Jun-2005; Publisher: Altium Limited; HelpURL: http://www.latticesemi.com/lit/docs/manuals/library.pdf
pins: I (in), O (out)
text: VDD

## IBMPUS
designator U?
CMOS Input Buffer with Pull-up and Delay; FPGAVendor: Lattice; Published: 15-Jun-2005; Publisher: Altium Limited; HelpURL: http://www.latticesemi.com/lit/docs/manuals/library.pdf
pins: I (in), O (out)
text: VDD

## IBMS
designator U?
CMOS Input Buffer with Delay; FPGAVendor: Lattice; Published: 15-Jun-2005; Publisher: Altium Limited; HelpURL: http://www.latticesemi.com/lit/docs/manuals/library.pdf
pins: I (in), O (out)

## IDDRXB
designator U?
DDRX Input Cell; FPGAVendor: Lattice; Published: 15-Jun-2005; Publisher: Altium Limited; HelpURL: http://www.latticesemi.com/lit/docs/manuals/library.pdf
pins: CE (in), D (in), DDRCLKPOL (in), ECLK (in), LSR (in), QA (out), QB (out), SCLK (in)

## IFS1P1B
designator U?
Positive Level Latch with Positive Level Enable and Positve Level Asynchronous Preset; FPGAVendor: Lattice; Published: 15-Jun-2005; Publisher: Altium Limited; HelpURL: http://www.latticesemi.com/lit/docs/manuals/library.pdf
pins: CK (in), D (in), PD (in), Q (out), SP (in)

## IFS1P1D
designator U?
Positive Level Latch with Positive Level Enable and Positive Asynchronous Clear; FPGAVendor: Lattice; Published: 15-Jun-2005; Publisher: Altium Limited; HelpURL: http://www.latticesemi.com/lit/docs/manuals/library.pdf
pins: CD (in), CK (in), D (in), Q (out), SP (in)

## IFS1P1I
designator U?
Positive Level Latch with Positive Level Enable and Positive Asynchronous Clear; FPGAVendor: Lattice; Published: 15-Jun-2005; Publisher: Altium Limited; HelpURL: http://www.latticesemi.com/lit/docs/manuals/library.pdf
pins: CD (in), CK (in), D (in), Q (out), SP (in)

## IFS1P1J
designator U?
Positive Level Latch with Positive Level Enable and Positive Level Asynchronous Preset; FPGAVendor: Lattice; Published: 15-Jun-2005; Publisher: Altium Limited; HelpURL: http://www.latticesemi.com/lit/docs/manuals/library.pdf
pins: CK (in), D (in), PD (in), Q (out), SP (in)

## IFS1P3BX
designator U?
Positive Edge Triggered D Flip-Flop with Positive Level Enable, Positive Level Asynchronous Preset, and System Clock (used in input PIC area only); FPGAVendor: Lattice; Published: 15-Jun-2005; Publisher: Altium Limited; HelpURL: http://www.latticesemi.com/lit/docs/manuals/library.pdf
pins: D (in), PD (in), Q (out), SCLK (in), SP (in)

## IFS1P3DX
designator U?
Positive Edge Triggered D Flip-Flop with Positive Level Enable, Positive Level Asynchronous Clear, and System Clock (used in input PIC area only); FPGAVendor: Lattice; Published: 15-Jun-2005; Publisher: Altium Limited; HelpURL: http://www.latticesemi.com/lit/docs/manuals/library.pdf
pins: CD (in), D (in), Q (out), SCLK (in), SP (in)

## IFS1P3IX
designator U?
Positive Edge Triggered D Flip-Flop with Positive Level Synchronous Clear, Positive Level Enable, and System Clock (Clear overrides Enable) (used in input PIC area only); FPGAVendor: Lattice; Published: 15-Jun-2005; Publisher: Altium Limited; HelpURL: http://www.latticesemi.com/lit/docs/manuals/library.pdf
pins: CD (in), D (in), Q (out), SCLK (in), SP (in)

## IFS1P3JX
designator U?
Positive Edge Triggered D Flip-Flop with Positive Level Synchronous Preset, Positive Level Enable, and System Clock (Preset overrides Enable) (used in input PIC area only); FPGAVendor: Lattice; Published: 15-Jun-2005; Publisher: Altium Limited; HelpURL: http://www.latticesemi.com/lit/docs/manuals/library.pdf
pins: D (in), PD (in), Q (out), SCLK (in), SP (in)

## IFS1S1B
designator U?
Positive Level Data Latch with Positive Level Asynchronous Preset and System Clock (used in input PIC area only); FPGAVendor: Lattice; Published: 15-Jun-2005; Publisher: Altium Limited; HelpURL: http://www.latticesemi.com/lit/docs/manuals/library.pdf
pins: D (in), PD (in), Q (out), SCLK (in)

## IFS1S1D
designator U?
Positive Level Data Latch with Positive Level Asynchronous Clear and System Clock (used in input PIC area only); FPGAVendor: Lattice; Published: 15-Jun-2005; Publisher: Altium Limited; HelpURL: http://www.latticesemi.com/lit/docs/manuals/library.pdf
pins: CD (in), D (in), Q (out), SCLK (in)

## IFS1S1I
designator U?
Positive Level Data Latch with Positive Level Synchronous Clear and System Clock (used in input PIC area only); FPGAVendor: Lattice; Published: 15-Jun-2005; Publisher: Altium Limited; HelpURL: http://www.latticesemi.com/lit/docs/manuals/library.pdf
pins: CD (in), D (in), Q (out), SCLK (in)

## IFS1S1J
designator U?
Positive Level Data Latch with Positive Level Synchronous Preset and System Clock (used in input PIC area only); FPGAVendor: Lattice; Published: 15-Jun-2005; Publisher: Altium Limited; HelpURL: http://www.latticesemi.com/lit/docs/manuals/library.pdf
pins: D (in), PD (in), Q (out), SCLK (in)

## INV
designator U?
Inverter; FPGAVendor: Lattice; Published: 15-Jun-2005; Publisher: Altium Limited; HelpURL: http://www.latticesemi.com/lit/docs/manuals/library.pdf
pins: A (in), Z (out)

## L6MUX21
designator U?
2 to 1 Mux; FPGAVendor: Lattice; Published: 15-Jun-2005; Publisher: Altium Limited; HelpURL: http://www.latticesemi.com/lit/docs/manuals/library.pdf
pins: D0 (in), D1 (in), SD (in), Z (out)

## MULT2
designator U?
DSP Multiplier; FPGAVendor: Lattice; Published: 15-Jun-2005; Publisher: Altium Limited; HelpURL: http://www.latticesemi.com/lit/docs/manuals/library.pdf
pins: A0 (in), A1 (in), A2 (in), A3 (in), B0 (in), B1 (in), B2 (in), B3 (in), CI (in), CO (out), P0 (out), P1 (out)

## MUX21
designator U?
2 to 1 Mux; FPGAVendor: Lattice; Published: 15-Jun-2005; Publisher: Altium Limited; HelpURL: http://www.latticesemi.com/lit/docs/manuals/library.pdf
pins: D0 (in), D1 (in), SD (in), Z (out)

## MUX41
designator U?
4 to 1 Mux; FPGAVendor: Lattice; Published: 15-Jun-2005; Publisher: Altium Limited; HelpURL: http://www.latticesemi.com/lit/docs/manuals/library.pdf
pins: D0 (in), D1 (in), D2 (in), D3 (in), SD1 (in), SD2 (in), Z (out)

## MUX81
designator U?
8 to 1 Mux; FPGAVendor: Lattice; Published: 15-Jun-2005; Publisher: Altium Limited; HelpURL: http://www.latticesemi.com/lit/docs/manuals/library.pdf
pins: D0 (in), D1 (in), D2 (in), D3 (in), D4 (in), D5 (in), D6 (in), D7 (in), SD1 (in), SD2 (in), SD3 (in), Z (out)

## MUX161
designator U?
16 to 1 Mux in PFU; FPGAVendor: Lattice; Published: 15-Jun-2005; Publisher: Altium Limited; HelpURL: http://www.latticesemi.com/lit/docs/manuals/library.pdf
pins: D0 (in), D1 (in), D2 (in), D3 (in), D4 (in), D5 (in), D6 (in), D7 (in), D8 (in), D9 (in), D10 (in), D11 (in), D12 (in), D13 (in), D14 (in), D15 (in), SD1 (in), SD2 (in), SD3 (in), SD4 (in), Z (out)

## MUX321
designator U?
32 to 1 Mux; FPGAVendor: Lattice; Published: 15-Jun-2005; Publisher: Altium Limited; HelpURL: http://www.latticesemi.com/lit/docs/manuals/library.pdf
pins: D0 (in), D1 (in), D2 (in), D3 (in), D4 (in), D5 (in), D6 (in), D7 (in), D8 (in), D9 (in), D10 (in), D11 (in), D12 (in), D13 (in), D14 (in), D15 (in), D16 (in), D17 (in), D18 (in), D19 (in), D20 (in), D21 (in), D22 (in), D23 (in), D24 (in), D25 (in), D26 (in), D27 (in), D28 (in), D29 (in), D30 (in), D31 (in), SD1 (in), SD2 (in), SD3 (in), SD4 (in), SD5 (in), Z (out)

## ND2
designator U?
2 Input NAND Gate; FPGAVendor: Lattice; Published: 15-Jun-2005; Publisher: Altium Limited; HelpURL: http://www.latticesemi.com/lit/docs/manuals/library.pdf
pins: A (in), B (in), Z (out)

## ND3
designator U?
3 Input NAND Gate; FPGAVendor: Lattice; Published: 15-Jun-2005; Publisher: Altium Limited; HelpURL: http://www.latticesemi.com/lit/docs/manuals/library.pdf
pins: A (in), B (in), C (in), Z (out)

## ND4
designator U?
4 Input NAND Gate; FPGAVendor: Lattice; Published: 15-Jun-2005; Publisher: Altium Limited; HelpURL: http://www.latticesemi.com/lit/docs/manuals/library.pdf
pins: A (in), B (in), C (in), D (in), Z (out)

## ND5
designator U?
5 Input NAND Gate; FPGAVendor: Lattice; Published: 15-Jun-2005; Publisher: Altium Limited; HelpURL: http://www.latticesemi.com/lit/docs/manuals/library.pdf
pins: A (in), B (in), C (in), D (in), E (in), Z (out)

## NR2
designator U?
2 Input NOR Gate; FPGAVendor: Lattice; Published: 15-Jun-2005; Publisher: Altium Limited; HelpURL: http://www.latticesemi.com/lit/docs/manuals/library.pdf
pins: A (in), B (in), Z (out)

## NR3
designator U?
3 Input NOR Gate; FPGAVendor: Lattice; Published: 15-Jun-2005; Publisher: Altium Limited; HelpURL: http://www.latticesemi.com/lit/docs/manuals/library.pdf
pins: A (in), B (in), C (in), Z (out)

## NR4
designator U?
4 Input NOR Gate; FPGAVendor: Lattice; Published: 15-Jun-2005; Publisher: Altium Limited; HelpURL: http://www.latticesemi.com/lit/docs/manuals/library.pdf
pins: A (in), B (in), C (in), D (in), Z (out)

## NR5
designator U?
5 Input NOR Gate; FPGAVendor: Lattice; Published: 15-Jun-2005; Publisher: Altium Limited; HelpURL: http://www.latticesemi.com/lit/docs/manuals/library.pdf
pins: A (in), B (in), C (in), D (in), E (in), Z (out)

## OB
designator U?
Output Buffer; FPGAVendor: Lattice; Published: 15-Jun-2005; Publisher: Altium Limited; HelpURL: http://www.latticesemi.com/lit/docs/manuals/library.pdf
pins: I (in), O (out)

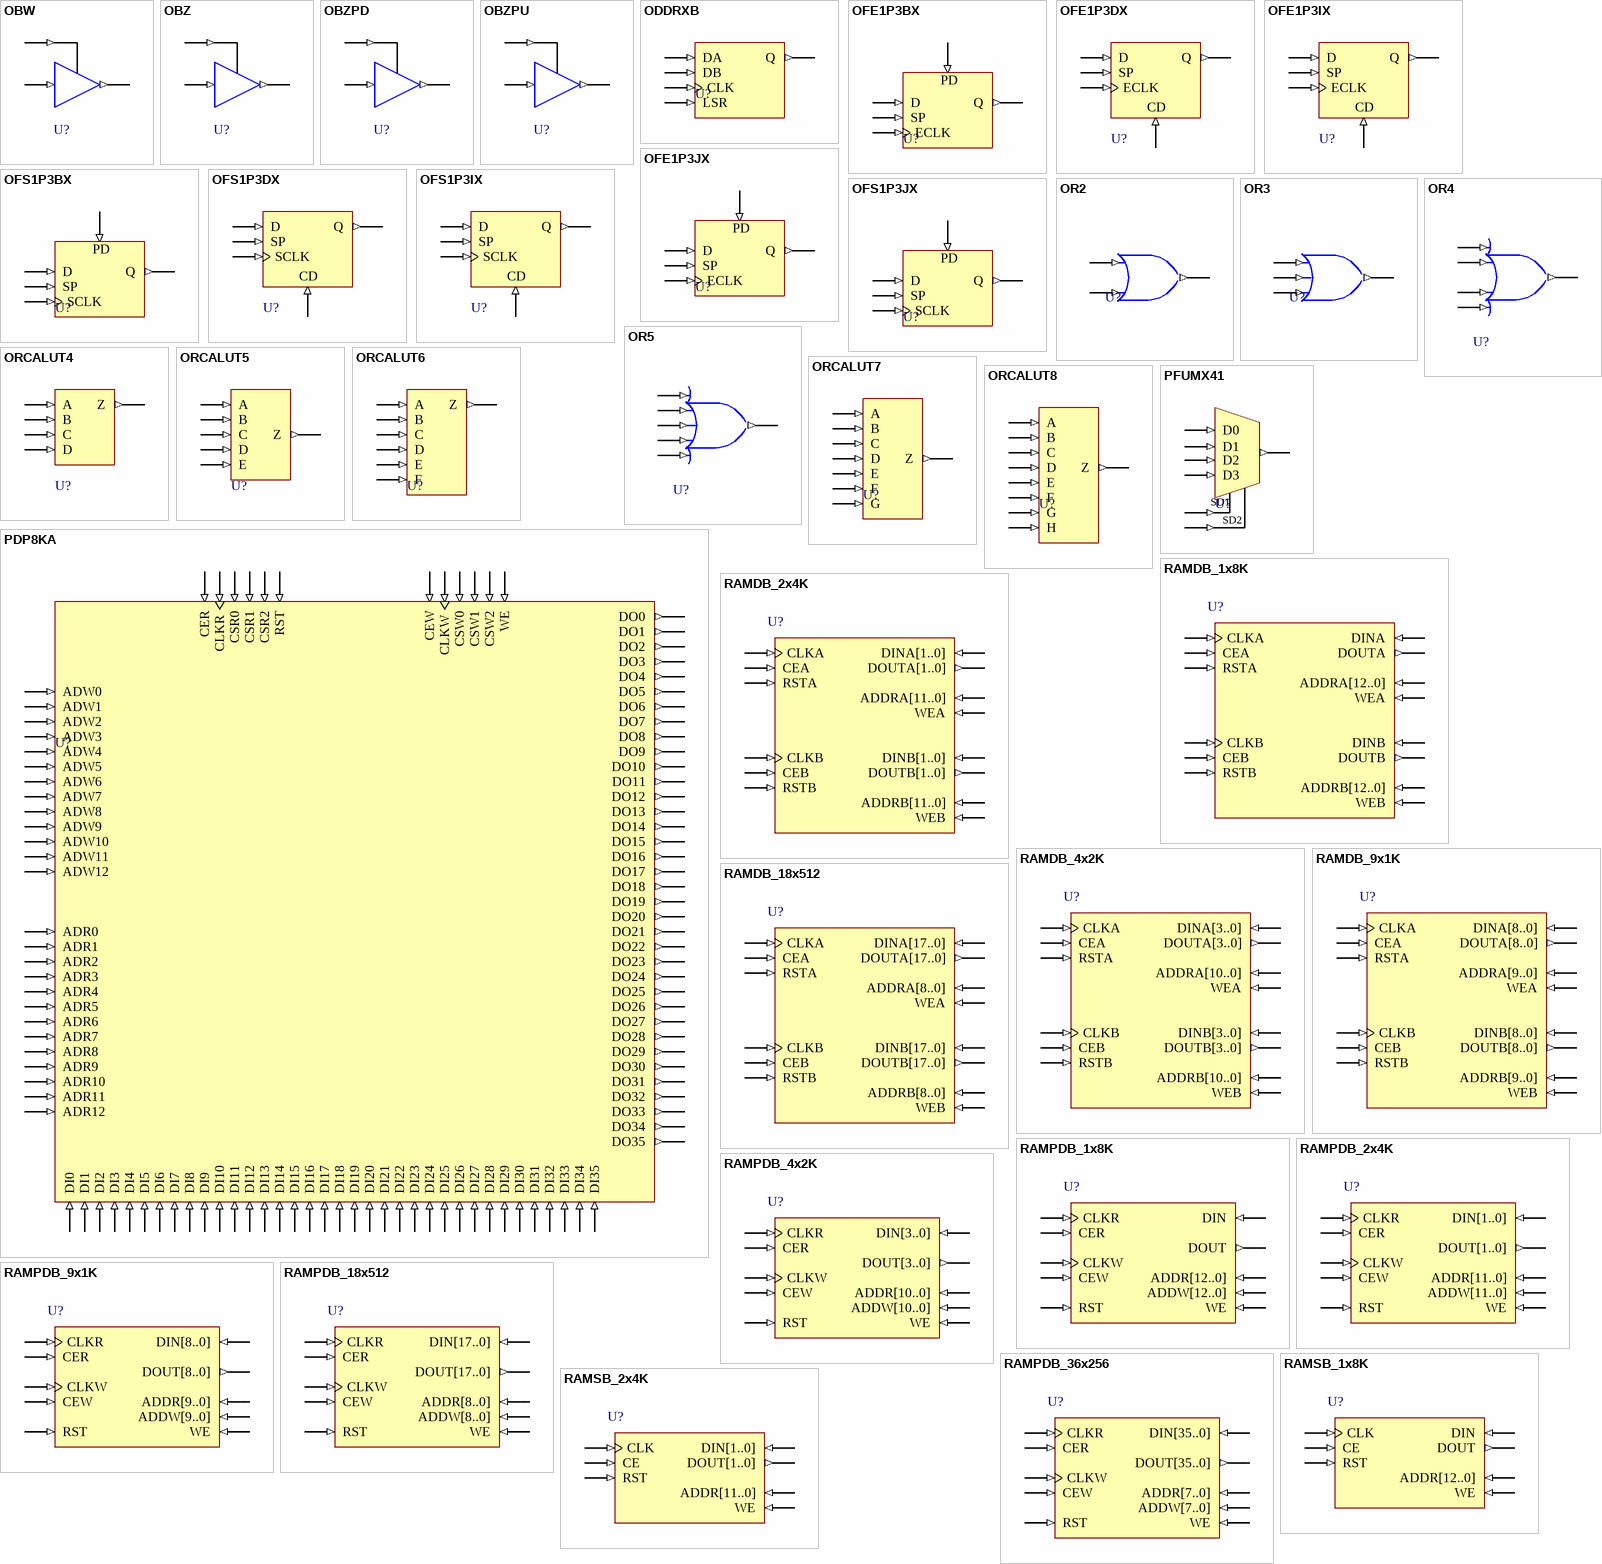
[diagram p3: symbols OBW to RAMSB_2x4K]

## OBW
designator U?
6mA Sink 3mA Source Sinklim Output Buffer with Tristate; FPGAVendor: Lattice; Published: 15-Jun-2005; Publisher: Altium Limited; HelpURL: http://www.latticesemi.com/lit/docs/manuals/library.pdf
pins: I (in), O (out), T (in)

## OBZ
designator U?
6mA Sink 3mA Source Sinklim Output Buffer; FPGAVendor: Lattice; Published: 15-Jun-2005; Publisher: Altium Limited; HelpURL: http://www.latticesemi.com/lit/docs/manuals/library.pdf
pins: I (in), O (out), T (in)

## OBZPD
designator U?
12mA Sink 6mA Source Slewlim Output Buffer; FPGAVendor: Lattice; Published: 15-Jun-2005; Publisher: Altium Limited; HelpURL: http://www.latticesemi.com/lit/docs/manuals/library.pdf
pins: I (in), O (out), T (in)

## OBZPU
designator U?
12mA Sink 6mA Source Fast Output Buffer; FPGAVendor: Lattice; Published: 15-Jun-2005; Publisher: Altium Limited; HelpURL: http://www.latticesemi.com/lit/docs/manuals/library.pdf
pins: I (in), O (out), T (in)

## ODDRXB
designator U?
ODDR Output Cell; FPGAVendor: Lattice; Published: 15-Jun-2005; Publisher: Altium Limited; HelpURL: http://www.latticesemi.com/lit/docs/manuals/library.pdf
pins: CLK (in), DA (in), DB (in), LSR (in), Q (out)

## OFE1P3BX
designator U?
Positive Edge Triggered D Flip-Flop with Positive Level Enable, Positive Level Asynchronous Preset, and Express Clock (used in output PIC area only); FPGAVendor: Lattice; Published: 15-Jun-2005; Publisher: Altium Limited; HelpURL: http://www.latticesemi.com/lit/docs/manuals/library.pdf
pins: D (in), ECLK (in), PD (in), Q (out), SP (in)

## OFE1P3DX
designator U?
Positive Edge Triggered D Flip-Flop with Positive Level Enable, Positive Level Asynchronous Clear, and Express Clock (used in output PIC area only); FPGAVendor: Lattice; Published: 15-Jun-2005; Publisher: Altium Limited; HelpURL: http://www.latticesemi.com/lit/docs/manuals/library.pdf
pins: CD (in), D (in), ECLK (in), Q (out), SP (in)

## OFE1P3IX
designator U?
Positive Edge Triggered D Flip-Flop with Positive Level Synchronous Clear, Positive Level Enable (Clear overrides Enable), and Express Clock (used in output PIC area only); FPGAVendor: Lattice; Published: 15-Jun-2005; Publisher: Altium Limited; HelpURL: http://www.latticesemi.com/lit/docs/manuals/library.pdf
pins: CD (in), D (in), ECLK (in), Q (out), SP (in)

## OFE1P3JX
designator U?
Positive Edge Triggered D Flip-Flop with Positive Level Synchronous Preset, Positive Level Enable (Preset overrides Enable), and Express Clock (used in output PIC area only); FPGAVendor: Lattice; Published: 15-Jun-2005; Publisher: Altium Limited; HelpURL: http://www.latticesemi.com/lit/docs/manuals/library.pdf
pins: D (in), ECLK (in), PD (in), Q (out), SP (in)

## OFS1P3BX
designator U?
Positive Edge Triggered D Flip-Flop with Positive Level Enable, Positive Level Asynchronous Preset, and System Clock (used in output PIC area only); FPGAVendor: Lattice; Published: 15-Jun-2005; Publisher: Altium Limited; HelpURL: http://www.latticesemi.com/lit/docs/manuals/library.pdf
pins: D (in), PD (in), Q (out), SCLK (in), SP (in)

## OFS1P3DX
designator U?
Positive Edge Triggered D Flip-Flop with Positive Level Enable, Positive Level Asynchronous Clear, and System Clock (used in output PIC area only); FPGAVendor: Lattice; Published: 15-Jun-2005; Publisher: Altium Limited; HelpURL: http://www.latticesemi.com/lit/docs/manuals/library.pdf
pins: CD (in), D (in), Q (out), SCLK (in), SP (in)

## OFS1P3IX
designator U?
Positive Edge Triggered D Flip-Flop with Positive Level Synchronous Clear, Positive Level Enable (Clear overrides Enable), and System Clock (used in output PIC area only); FPGAVendor: Lattice; Published: 15-Jun-2005; Publisher: Altium Limited; HelpURL: http://www.latticesemi.com/lit/docs/manuals/library.pdf
pins: CD (in), D (in), Q (out), SCLK (in), SP (in)

## OFS1P3JX
designator U?
Positive Edge Triggered D Flip-Flop with Positive Level Synchronous Preset, Positive Level Enable (Preset overrides Enable), and System Clock (used in output PIC area only); FPGAVendor: Lattice; Published: 15-Jun-2005; Publisher: Altium Limited; HelpURL: http://www.latticesemi.com/lit/docs/manuals/library.pdf
pins: D (in), PD (in), Q (out), SCLK (in), SP (in)

## OR2
designator U?
2 Input OR Gate; FPGAVendor: Lattice; Published: 15-Jun-2005; Publisher: Altium Limited; HelpURL: http://www.latticesemi.com/lit/docs/manuals/library.pdf
pins: A (in), B (in), Z (out)

## OR3
designator U?
3 Input OR Gate; FPGAVendor: Lattice; Published: 15-Jun-2005; Publisher: Altium Limited; HelpURL: http://www.latticesemi.com/lit/docs/manuals/library.pdf
pins: A (in), B (in), C (in), Z (out)

## OR4
designator U?
4 Input OR Gate; FPGAVendor: Lattice; Published: 15-Jun-2005; Publisher: Altium Limited; HelpURL: http://www.latticesemi.com/lit/docs/manuals/library.pdf
pins: A (in), B (in), C (in), D (in), Z (out)

## OR5
designator U?
5 Input OR Gate; FPGAVendor: Lattice; Published: 15-Jun-2005; Publisher: Altium Limited; HelpURL: http://www.latticesemi.com/lit/docs/manuals/library.pdf
pins: A (in), B (in), C (in), D (in), E (in), Z (out)

## ORCALUT4
designator U?
4-Input Look-up Table; FPGAVendor: Lattice; Published: 15-Jun-2005; Publisher: Altium Limited; HelpURL: http://www.latticesemi.com/lit/docs/manuals/library.pdf
pins: A (in), B (in), C (in), D (in), Z (out)

## ORCALUT5
designator U?
5-Input Look-up Table; FPGAVendor: Lattice; Published: 15-Jun-2005; Publisher: Altium Limited; HelpURL: http://www.latticesemi.com/lit/docs/manuals/library.pdf
pins: A (in), B (in), C (in), D (in), E (in), Z (out)

## ORCALUT6
designator U?
6-Input Look-up Table; FPGAVendor: Lattice; Published: 15-Jun-2005; Publisher: Altium Limited; HelpURL: http://www.latticesemi.com/lit/docs/manuals/library.pdf
pins: A (in), B (in), C (in), D (in), E (in), F (in), Z (out)

## ORCALUT7
designator U?
7-Input Look-up Table; FPGAVendor: Lattice; Published: 15-Jun-2005; Publisher: Altium Limited; HelpURL: http://www.latticesemi.com/lit/docs/manuals/library.pdf
pins: A (in), B (in), C (in), D (in), E (in), F (in), G (in), Z (out)

## ORCALUT8
designator U?
8-Input Look-up Table; FPGAVendor: Lattice; Published: 15-Jun-2005; Publisher: Altium Limited; HelpURL: http://www.latticesemi.com/lit/docs/manuals/library.pdf
pins: A (in), B (in), C (in), D (in), E (in), F (in), G (in), H (in), Z (out)

## PDP8KA
designator U?
8K Pseudo Dual Port Block RAM; FPGAVendor: Lattice; Published: 15-Jun-2005; Publisher: Altium Limited; HelpURL: http://www.latticesemi.com/lit/docs/manuals/library.pdf
pins: ADR0 (in), ADR1 (in), ADR2 (in), ADR3 (in), ADR4 (in), ADR5 (in), ADR6 (in), ADR7 (in), ADR8 (in), ADR9 (in), ADR10 (in), ADR11 (in), ADR12 (in), ADW0 (in), ADW1 (in), ADW2 (in), ADW3 (in), ADW4 (in), ADW5 (in), ADW6 (in), ADW7 (in), ADW8 (in), ADW9 (in), ADW10 (in), ADW11 (in), ADW12 (in), CER (in), CEW (in), CLKR (in), CLKW (in), CSR0 (in), CSR1 (in), CSR2 (in), CSW0 (in), CSW1 (in), CSW2 (in), DI0 (in), DI1 (in), DI2 (in), DI3 (in), DI4 (in), DI5 (in), DI6 (in), DI7 (in), DI8 (in), DI9 (in), DI10 (in), DI11 (in), DI12 (in), DI13 (in), DI14 (in), DI15 (in), DI16 (in), DI17 (in), DI18 (in), DI19 (in), DI20 (in), DI21 (in), DI22 (in), DI23 (in), DI24 (in), DI25 (in), DI26 (in), DI27 (in), DI28 (in), DI29 (in), DI30 (in), DI31 (in), DI32 (in), DI33 (in), DI34 (in), DI35 (in), DO0 (out), DO1 (out), DO2 (out), DO3 (out), DO4 (out), DO5 (out), DO6 (out), DO7 (out), DO8 (out), DO9 (out), DO10 (out), DO11 (out), DO12 (out), DO13 (out), DO14 (out), DO15 (out), DO16 (out), DO17 (out), DO18 (out), DO19 (out), DO20 (out), DO21 (out), DO22 (out), DO23 (out), DO24 (out), DO25 (out), DO26 (out), DO27 (out), DO28 (out), DO29 (out), DO30 (out), DO31 (out), DO32 (out), DO33 (out), DO34 (out), DO35 (out), RST (in), WE (in)

## PFUMX41
designator U?
4 to 1 Mux; FPGAVendor: Lattice; Published: 15-Jun-2005; Publisher: Altium Limited; HelpURL: http://www.latticesemi.com/lit/docs/manuals/library.pdf
pins: D0 (in), D1 (in), D2 (in), D3 (in), SD1 (in), SD2 (in), Z (out)

## RAMDB_1x8K
designator U?
EBR Based - True Dual Port RAM with memory size of 8Kx1; ArchiveName: GENERIC; Published: 10-Aug-2005; Publisher: Altium Limited; HelpURL: http://www.latticesemi.com/lit/docs/handbooks/ecp_ec_handbook.pdf
pins: ADDRA[12..0] (in), ADDRB[12..0] (in), CEA (in), CEB (in), CLKA (in), CLKB (in), DINA (in), DINB (in), DOUTA (out), DOUTB (out), RSTA (in), RSTB (in), WEA (in), WEB (in)

## RAMDB_2x4K
designator U?
EBR Based - True Dual Port RAM with memory size of 4Kx2; ArchiveName: GENERIC; Published: 10-Aug-2005; Publisher: Altium Limited; HelpURL: http://www.latticesemi.com/lit/docs/handbooks/ecp_ec_handbook.pdf
pins: ADDRA[11..0] (in), ADDRB[11..0] (in), CEA (in), CEB (in), CLKA (in), CLKB (in), DINA[1..0] (in), DINB[1..0] (in), DOUTA[1..0] (out), DOUTB[1..0] (out), RSTA (in), RSTB (in), WEA (in), WEB (in)

## RAMDB_4x2K
designator U?
EBR  Based -True Dual Port RAM with memory size of 2Kx4; ArchiveName: GENERIC; Published: 10-Aug-2005; Publisher: Altium Limited; HelpURL: http://www.latticesemi.com/lit/docs/handbooks/ecp_ec_handbook.pdf
pins: ADDRA[10..0] (in), ADDRB[10..0] (in), CEA (in), CEB (in), CLKA (in), CLKB (in), DINA[3..0] (in), DINB[3..0] (in), DOUTA[3..0] (out), DOUTB[3..0] (out), RSTA (in), RSTB (in), WEA (in), WEB (in)

## RAMDB_9x1K
designator U?
EBR  Based - True Dual Port RAM with memory size of 1Kx9; ArchiveName: GENERIC; Published: 10-Aug-2005; Publisher: Altium Limited; HelpURL: http://www.latticesemi.com/lit/docs/handbooks/ecp_ec_handbook.pdf
pins: ADDRA[9..0] (in), ADDRB[9..0] (in), CEA (in), CEB (in), CLKA (in), CLKB (in), DINA[8..0] (in), DINB[8..0] (in), DOUTA[8..0] (out), DOUTB[8..0] (out), RSTA (in), RSTB (in), WEA (in), WEB (in)

## RAMDB_18x512
designator U?
EBR Based - True Dual Port RAM with memory size of 512x18; ArchiveName: GENERIC; Published: 10-Aug-2005; Publisher: Altium Limited; HelpURL: http://www.latticesemi.com/lit/docs/handbooks/ecp_ec_handbook.pdf
pins: ADDRA[8..0] (in), ADDRB[8..0] (in), CEA (in), CEB (in), CLKA (in), CLKB (in), DINA[17..0] (in), DINB[17..0] (in), DOUTA[17..0] (out), DOUTB[17..0] (out), RSTA (in), RSTB (in), WEA (in), WEB (in)

## RAMPDB_1x8K
designator U?
EBR Based - Pseudo Dual Port RAM with memory size of 8Kx1; ArchiveName: GENERIC; Published: 10-Aug-2005; Publisher: Altium Limited; HelpURL: http://www.latticesemi.com/lit/docs/handbooks/ecp_ec_handbook.pdf
pins: ADDR[12..0] (in), ADDW[12..0] (in), CER (in), CEW (in), CLKR (in), CLKW (in), DIN (in), DOUT (out), RST (in), WE (in)

## RAMPDB_2x4K
designator U?
EBR Based - Pseudo Dual Port RAM with memory size of 4Kx2; ArchiveName: GENERIC; Published: 10-Aug-2005; Publisher: Altium Limited; HelpURL: http://www.latticesemi.com/lit/docs/handbooks/ecp_ec_handbook.pdf
pins: ADDR[11..0] (in), ADDW[11..0] (in), CER (in), CEW (in), CLKR (in), CLKW (in), DIN[1..0] (in), DOUT[1..0] (out), RST (in), WE (in)

## RAMPDB_4x2K
designator U?
EBR Based - Pseudo Dual Port RAM with memory size of 2Kx4; ArchiveName: GENERIC; Published: 10-Aug-2005; Publisher: Altium Limited; HelpURL: http://www.latticesemi.com/lit/docs/handbooks/ecp_ec_handbook.pdf
pins: ADDR[10..0] (in), ADDW[10..0] (in), CER (in), CEW (in), CLKR (in), CLKW (in), DIN[3..0] (in), DOUT[3..0] (out), RST (in), WE (in)

## RAMPDB_9x1K
designator U?
EBR Based - Pseudo Dual Port RAM with memory size of 1Kx9; ArchiveName: GENERIC; Published: 10-Aug-2005; Publisher: Altium Limited; HelpURL: http://www.latticesemi.com/lit/docs/handbooks/ecp_ec_handbook.pdf
pins: ADDR[9..0] (in), ADDW[9..0] (in), CER (in), CEW (in), CLKR (in), CLKW (in), DIN[8..0] (in), DOUT[8..0] (out), RST (in), WE (in)

## RAMPDB_18x512
designator U?
EBR Based - Pseudo Dual Port RAM with memory size of 512x18; ArchiveName: GENERIC; Published: 10-Aug-2005; Publisher: Altium Limited; HelpURL: http://www.latticesemi.com/lit/docs/handbooks/ecp_ec_handbook.pdf
pins: ADDR[8..0] (in), ADDW[8..0] (in), CER (in), CEW (in), CLKR (in), CLKW (in), DIN[17..0] (in), DOUT[17..0] (out), RST (in), WE (in)

## RAMPDB_36x256
designator U?
EBR Based - Pseudo Dual Port RAM with memory size of 256x36; ArchiveName: GENERIC; Published: 10-Aug-2005; Publisher: Altium Limited; HelpURL: http://www.latticesemi.com/lit/docs/handbooks/ecp_ec_handbook.pdf
pins: ADDR[7..0] (in), ADDW[7..0] (in), CER (in), CEW (in), CLKR (in), CLKW (in), DIN[35..0] (in), DOUT[35..0] (out), RST (in), WE (in)

## RAMSB_1x8K
designator U?
EBR Based - Single Port RAM with memory size of 8Kx1; ArchiveName: GENERIC; Published: 10-Aug-2005; Publisher: Altium Limited; HelpURL: http://www.latticesemi.com/lit/docs/handbooks/ecp_ec_handbook.pdf
pins: ADDR[12..0] (in), CE (in), CLK (in), DIN (in), DOUT (out), RST (in), WE (in)

## RAMSB_2x4K
designator U?
EBR Based - Single Port RAM with memory size of 4Kx2; ArchiveName: GENERIC; Published: 10-Aug-2005; Publisher: Altium Limited; HelpURL: http://www.latticesemi.com/lit/docs/handbooks/ecp_ec_handbook.pdf
pins: ADDR[11..0] (in), CE (in), CLK (in), DIN[1..0] (in), DOUT[1..0] (out), RST (in), WE (in)

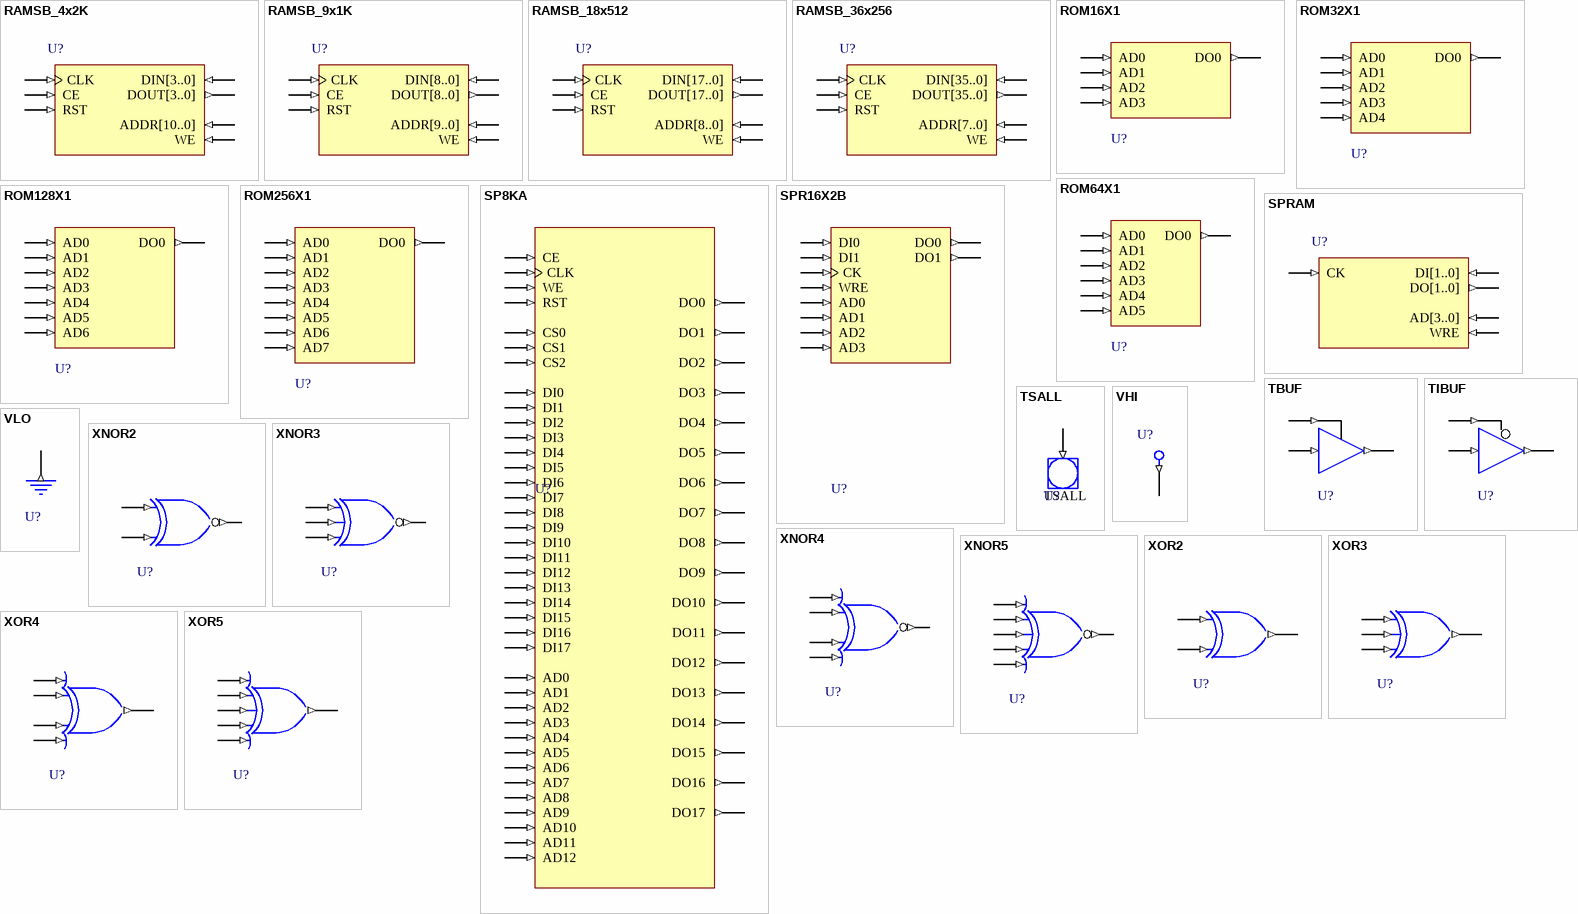
[diagram p4: symbols RAMSB_4x2K to XOR5]

## RAMSB_4x2K
designator U?
EBR Based - Single Port RAM with memory size of 2Kx4; ArchiveName: GENERIC; Published: 10-Aug-2005; Publisher: Altium Limited; HelpURL: http://www.latticesemi.com/lit/docs/handbooks/ecp_ec_handbook.pdf
pins: ADDR[10..0] (in), CE (in), CLK (in), DIN[3..0] (in), DOUT[3..0] (out), RST (in), WE (in)

## RAMSB_9x1K
designator U?
EBR Based - Single Port RAM with memory size of 1Kx9; ArchiveName: GENERIC; Published: 10-Aug-2005; Publisher: Altium Limited; HelpURL: http://www.latticesemi.com/lit/docs/handbooks/ecp_ec_handbook.pdf
pins: ADDR[9..0] (in), CE (in), CLK (in), DIN[8..0] (in), DOUT[8..0] (out), RST (in), WE (in)

## RAMSB_18x512
designator U?
EBR Based - Single Port RAM with memory size of 512x18; ArchiveName: GENERIC; Published: 10-Aug-2005; Publisher: Altium Limited; HelpURL: http://www.latticesemi.com/lit/docs/handbooks/ecp_ec_handbook.pdf
pins: ADDR[8..0] (in), CE (in), CLK (in), DIN[17..0] (in), DOUT[17..0] (out), RST (in), WE (in)

## RAMSB_36x256
designator U?
EBR Based - Single Port RAM with memory size of 256x36; ArchiveName: GENERIC; Published: 10-Aug-2005; Publisher: Altium Limited; HelpURL: http://www.latticesemi.com/lit/docs/handbooks/ecp_ec_handbook.pdf
pins: ADDR[7..0] (in), CE (in), CLK (in), DIN[35..0] (in), DOUT[35..0] (out), RST (in), WE (in)

## ROM16X1
designator U?
16 Word by 1 Bit Read-Only Memory; FPGAVendor: Lattice; Published: 15-Jun-2005; Publisher: Altium Limited; HelpURL: http://www.latticesemi.com/lit/docs/manuals/library.pdf
pins: AD0 (in), AD1 (in), AD2 (in), AD3 (in), DO0 (out)

## ROM32X1
designator U?
32 Word by 1 Bit Read-Only Memory; FPGAVendor: Lattice; Published: 15-Jun-2005; Publisher: Altium Limited; HelpURL: http://www.latticesemi.com/lit/docs/manuals/library.pdf
pins: AD0 (in), AD1 (in), AD2 (in), AD3 (in), AD4 (in), DO0 (out)